# EAGLE library part TPS62730 (library ee_projects)
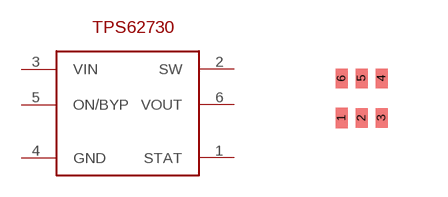
[diagram p3: symbol with the pads of SON-6; footprint SON-6]

Designator prefix -

## TPS62730  [SON-6]
1  STAT
2  SW
3  VIN
4  GND
5  ON/BYP
6  VOUT

## Footprint SON-6 (pad centres in mm)
smd 0.3 x 0.52: 1 -0.5,-0.495
smd 0.3 x 0.49: 2 0,-0.495; 3 0.5,-0.495; 4 0.5,0.495; 5 0,0.495; 6 -0.5,0.495